# Altium integrated library FMC-ASP-134604-01.IntLib: 1 symbol
Pins are listed as number, name and electrical type; pins without a type are passive.

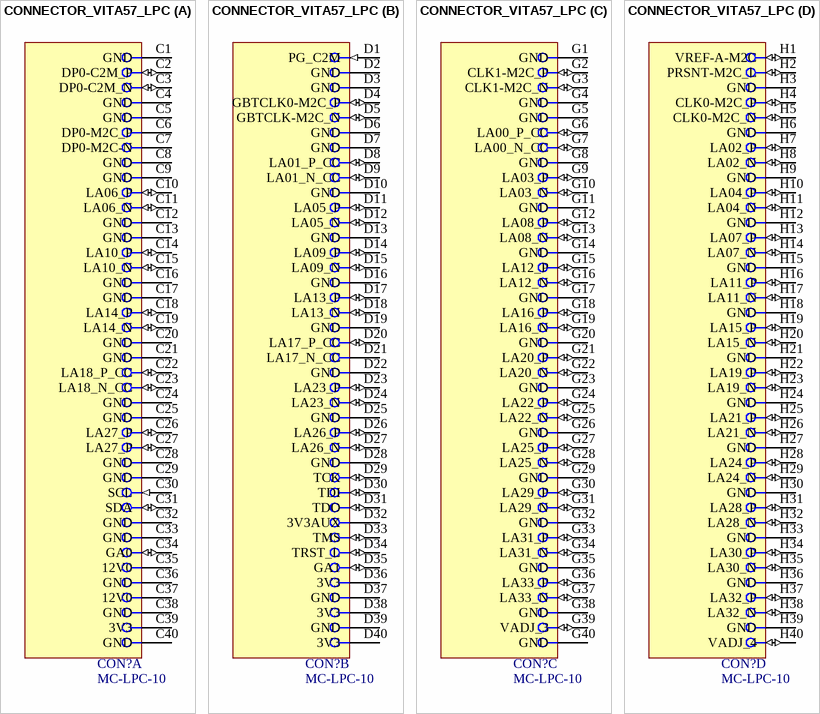
[diagram p0: symbol CONNECTOR_VITA57_LPC]

## CONNECTOR_VITA57_LPC
designator CON?, comment MC-LPC-10
Connector VITA57 LPC; Manufacturer: Samtec; Part Number: ASP-134604-01; Specific: 4x40 contacts, stack height 10 mm; Type: Terminal (Module Side); Part Description: Connector VITA57 LPC; Distributor: Sibalco, Samtec; Distributor Part Number: ASP-134604-01; Value: MC-LPC-10; Supplier 1: Digi-Key; Supplier Part Number 1: SAM8732-ND
footprint ASP-134604-01 (Samtec ASP-134604-01, LPC used for FMC, Terminal (Module Side) 10mm stack height)
part A pins: C1 GND, C2 DP0-C2M_P (io), C3 DP0-C2M_N (io), C4 GND, C5 GND, C6 DP0-M2C_P, C7 DP0-M2C-N, C8 GND, C9 GND, C10 LA06_P (io), C11 LA06_N (io), C12 GND, C13 GND, C14 LA10_P (io), C15 LA10_N (io), C16 GND, C17 GND, C18 LA14_P (io), C19 LA14_N (io), C20 GND, C21 GND, C22 LA18_P_CC (io), C23 LA18_N_CC (io), C24 GND, C25 GND, C26 LA27_P (io), C27 LA27_P (io), C28 GND, C29 GND, C30 SCL (in), C31 SDA (io), C32 GND, C33 GND, C34 GA0 (io), C35 12V0 (power), C36 GND, C37 12V0 (power), C38 GND, C39 3V3 (power), C40 GND
part B pins: D1 PG_C2M (in), D2 GND, D3 GND, D4 GBTCLK0-M2C_P (io), D5 GBTCLK-M2C_N (io), D6 GND, D7 GND, D8 LA01_P_CC (io), D9 LA01_N_CC (io), D10 GND, D11 LA05_P (io), D12 LA05_N (io), D13 GND, D14 LA09_P (io), D15 LA09_N (io), D16 GND, D17 LA13_P (io), D18 LA13_N (io), D19 GND, D20 LA17_P_CC (io), D21 LA17_N_CC, D22 GND, D23 LA23_P (io), D24 LA23_N (io), D25 GND, D26 LA26_P (io), D27 LA26_N (io), D28 GND, D29 TCK (io), D30 TDI (io), D31 TDO (io), D32 3V3AUX (power), D33 TMS (io), D34 TRST_L (io), D35 GA1 (io), D36 3V3 (power), D37 GND, D38 3V3 (power), D39 GND, D40 3V3 (power)
part C pins: G1 GND, G2 CLK1-M2C_P (io), G3 CLK1-M2C_N (io), G4 GND, G5 GND, G6 LA00_P_CC (io), G7 LA00_N_CC (io), G8 GND, G9 LA03_P (io), G10 LA03_N (io), G11 GND, G12 LA08_P (io), G13 LA08_N (io), G14 GND, G15 LA12_P (io), G16 LA12_N (io), G17 GND, G18 LA16_P (io), G19 LA16_N (io), G20 GND, G21 LA20_P (io), G22 LA20_N (io), G23 GND, G24 LA22_P (io), G25 LA22_N (io), G26 GND, G27 LA25_P (io), G28 LA25_N (io), G29 GND, G30 LA29_P (io), G31 LA29_N (io), G32 GND, G33 LA31_P (io), G34 LA31_N (io), G35 GND, G36 LA33_P (io), G37 LA33_N (io), G38 GND, G39 VADJ_3 (io), G40 GND
part D pins: H1 VREF-A-M2C (io), H2 PRSNT-M2C_L (io), H3 GND, H4 CLK0-M2C_P (io), H5 CLK0-M2C_N (io), H6 GND, H7 LA02_P (io), H8 LA02_N (io), H9 GND, H10 LA04_P (io), H11 LA04_N (io), H12 GND, H13 LA07_P (io), H14 LA07_N (io), H15 GND, H16 LA11_P (io), H17 LA11_N (io), H18 GND, H19 LA15_P (io), H20 LA15_N (io), H21 GND, H22 LA19_P (io), H23 LA19_N (io), H24 GND, H25 LA21_P (io), H26 LA21_N (io), H27 GND, H28 LA24_P (io), H29 LA24_N (io), H30 GND, H31 LA28_P (io), H32 LA28_N (io), H33 GND, H34 LA30_P (io), H35 LA30_N (io), H36 GND, H37 LA32_P (io), H38 LA32_N (io), H39 GND, H40 VADJ_4 (io)